# Altium footprint library SM_L_13.8MMx12.9MMx6.7MM.PcbLib: 1 footprints
Each footprint in its own frame and in the unit in brackets; x right, y up, seen from the top. Pads: shape width x height; smd on the part's side, far side on the other; paste and mask are expansions set on the pad; w line width, h text height; cw(c..) or ccw(c..) is an arc to the next point about the centre after c.
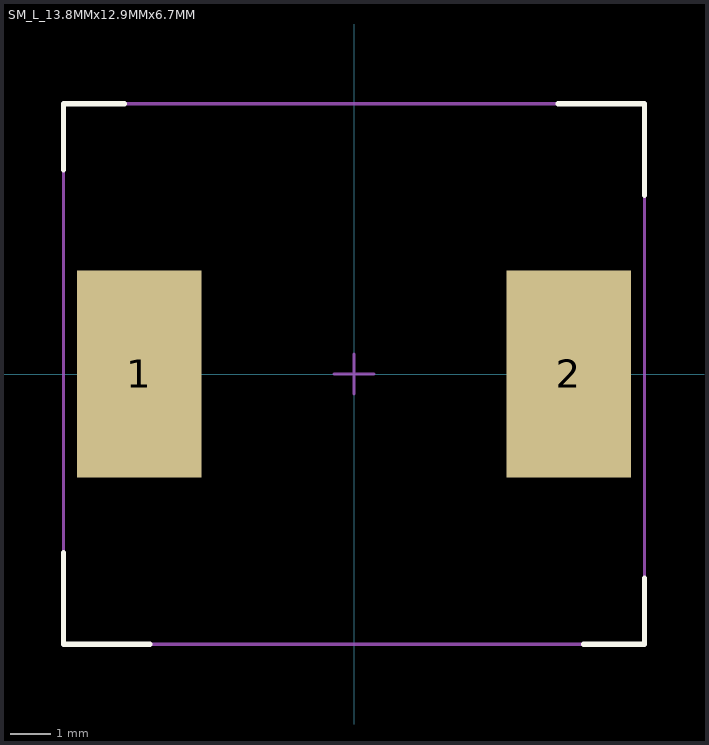
[diagram p0: the footprint, top view; thin cyan lines are the x and y axes]

## SM_L_13.8MMx12.9MMx6.7MM [mm] "13.8mm x 12.9mm x 6.7mm"
height 6.7
pads (2):
  rect 3.1x5.15 smd: 1(-5.35,0) 2(5.35,0)
Top Overlay:
  lines w0.127: -7.239,-4.445 -7.239,-6.731 -5.08,-6.731 ; -7.239,5.08 -7.239,6.731 -5.715,6.731 ; 5.08,6.731 7.239,6.731 7.239,4.445 ; 5.715,-6.731 7.239,-6.731 7.239,-5.08
Mechanical 15:
  lines w0.076: -0.5,0 0.5,0 ; 0,-0.5 0,0.5 ; -7.239,-6.731 7.239,-6.731 7.239,6.731 -7.239,6.731 -7.239,-6.731
3D body: height 6.7, standoff 0, extent -6.9,-6.45 6.9,6.45